# Altium schematic symbol library ADS8688A_MODULE.SchLib: 1 symbol
Pins are listed as number, name and electrical type; pins without a type are passive.

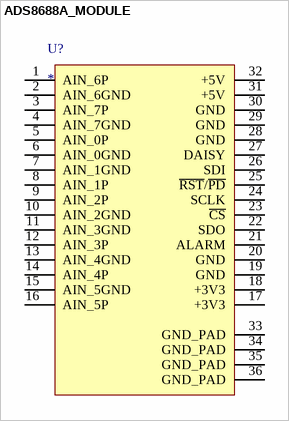
[diagram p0: symbol ADS8688A_MODULE]

## ADS8688A_MODULE
designator U?
footprint ADS8688A_MODULE
pins: 1 AIN_6P, 2 AIN_6GND, 3 AIN_7P, 4 AIN_7GND, 5 AIN_0P, 6 AIN_0GND, 7 AIN_1GND, 8 AIN_1P, 9 AIN_2P, 10 AIN_2GND, 11 AIN_3GND, 12 AIN_3P, 13 AIN_4GND, 14 AIN_4P, 15 AIN_5GND, 16 AIN_5P, 17 +3V3, 18 +3V3, 19 GND, 20 GND, 21 ALARM, 22 SDO, 23 ~{CS}, 24 SCLK, 25 ~{RST}/~{PD}, 26 SDI, 27 DAISY, 28 GND, 29 GND, 30 GND, 31 +5V, 32 +5V, 33 GND_PAD, 34 GND_PAD, 35 GND_PAD, 36 GND_PAD